# Altium schematic symbol library POWER_LIB.SchLib: 10 symbols
Pins are listed as number, name and electrical type; pins without a type are passive.

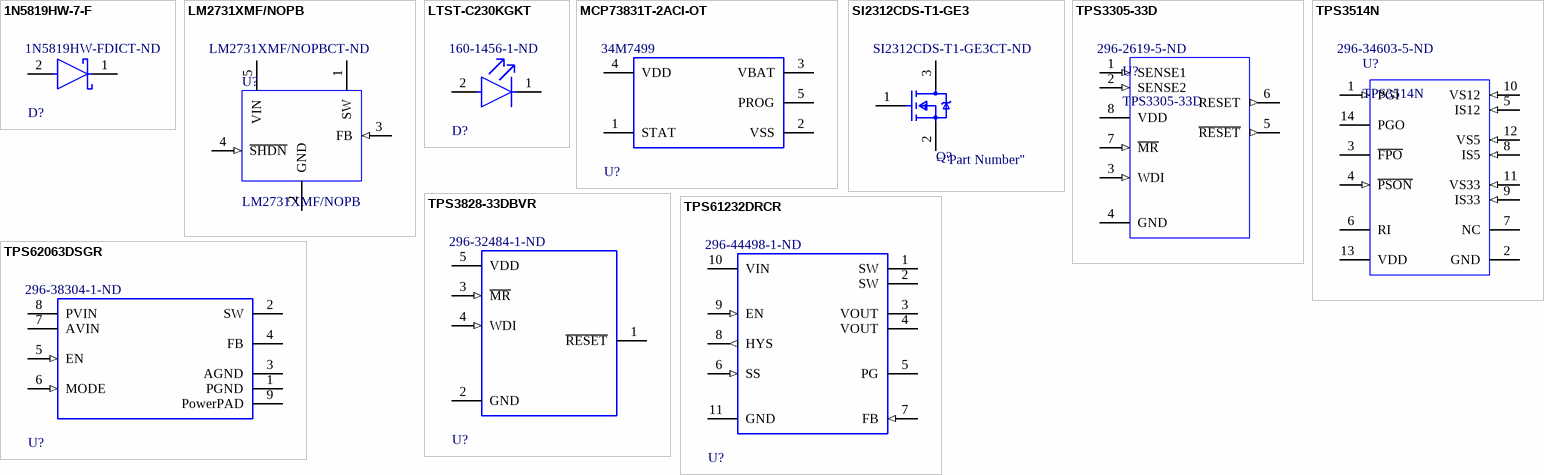
[diagram p0: symbols 1N5819HW-7-F to TPS62063DSGR]

## 1N5819HW-7-F
designator D?  Supplier Part Number 1: 1N5819HW-FDICT-ND  (hidden comment: *)
DIODES INC. - 1N5819HW-7-F - DIODE, SCKY RECTI, 1A, 40V, SOD123; Forward Voltage: 450mV; Max Reverse Current: 50uA; Element Configuration: Single; Max Forward Surge Current (Ifsm): 25A; Max Power Dissipation: 450mW; Polarity: Standard; Capacitance: 110pF; Supplier 1: Digi-Key; Manufacturer: Diodes; Manufacturer Part Number: 1N5819HW-7-F; RoHS: Yes; Category: Schottky Diodes; Stock 1: 453240; Pricing 1: 1=0.43000, 10=0.29800, 100=0.15020, 500=0.12256, 1000=0.09094 (USD); Case/Package: SOD-123-2; Number of Pins: 2; Weight: 0.000353oz; Contact Plating: Tin,Matte; Min Operating Temperature: -65°C; Max Operating Temperature: 125°C; Forward Current: 1A; Max Repetitive Reverse Voltage (Vrrm): 40V; Packaging: Tape and Reel; Peak Non-Repetitive Surge Current: 25A; Package Quantity: 3000; Average Rectified Current: 1A; Termination: SMD/SMT; Voltage Rating (DC): 40V; Current Rating: 1A; Output Current: 1A; Max Reverse Voltage (DC): 40V; Series: -; Length: 2.85mm; Width: 1.7mm; Height: 1.25mm; Radiation Hardening: No; RoHS Compliant: Yes; REACH SVHC: No SVHC; Lead Free: Lead Free; ComponentLink1URL: https://datasheet.ciiva.com/16303/ds30217-16303296.pdf?src-supplier=Future+Electronics; ComponentLink1Description: https://datasheet.ciiva.com/16303/ds30217-16303296.pdf?src-supplier=Future+Electronics; ComponentLink2URL: https://datasheet.ciiva.com/27092/1538419-27092484.pdf?src-supplier=Jameco; ComponentLink2Description: https://datasheet.ciiva.com/27092/1538419-27092484.pdf?src-supplier=Jameco; ComponentLink3URL: https://datasheet.ciiva.com/912/ds30217-912801.pdf?src-supplier=Digi-Key; ComponentLink3Description: https://datasheet.ciiva.com/912/ds30217-912801.pdf?src-supplier=Digi-Key; ComponentLink4URL: https://datasheet.ciiva.com/1177/ds30217-1177089.pdf?src-supplier=Element14; ComponentLink4Description: https://datasheet.ciiva.com/1177/ds30217-1177089.pdf?src-supplier=Element14; ComponentLink5URL: https://datasheet.ciiva.com/912/ds30217-912802.pdf?src-supplier=Digi-Key; ComponentLink5Description: https://datasheet.ciiva.com/912/ds30217-912802.pdf?src-supplier=Digi-Key; ComponentLink6URL: https://datasheet.ciiva.com/912/ds30217-912803.pdf?src-supplier=Digi-Key; ComponentLink6Description: https://datasheet.ciiva.com/912/ds30217-912803.pdf?src-supplier=Digi-Key; ComponentLink7URL: https://datasheet.ciiva.com/8303/ds30217-8303132.pdf?src-supplier=Avnet; ComponentLink7Description: https://datasheet.ciiva.com/8303/ds30217-8303132.pdf?src-supplier=Avnet; ComponentLink8URL: https://datasheet.ciiva.com/25919/ds30217-25919644.pdf?src-supplier=Avnet+Europe; ComponentLink8Description: https://datasheet.ciiva.com/25919/ds30217-25919644.pdf?src-supplier=Avnet+Europe
footprint Diodes_SOD123_IPC_B
pins: 1 C, 2 A

## LM2731XMF/NOPB
designator U?  Supplier Part Number 1: LM2731XMF/NOPBCT-ND
TEXAS INSTRUMENTS - LM2731XMF/NOPB - BOOST CONVERTER, 5-SOT-23; Manufacturer: National Semiconductor; PackageTopMarking: S51A*XTT; PowerWise: N; CompType: Switcher; Output Voltage: 22V; Number of Outputs: 1; Efficiency: 85%; Min Input Voltage: 2.7V; Max Input Voltage: 14V; Frequency: 1.6MHz; Output Current: 2mA; Max Output Current: 1.5A; Min Output Voltage: 1.23V; Output Type: Adjustable; Nominal Supply Current: 500uA; PinCount: 5; DatasheetVersion: Jul-2007; PackageVersion: revD, Aug-2008; PackageDescription: Molded SOT-23, .115 x .063 x .040 in Body, 5 Lead, .0375 in Pitch; RoHS: Y; PackageReference: MF05A; PartNumber: LM2731XMF/NOPB; Supplier 1: Digi-Key; Manufacturer Part Number: LM2731XMF/NOPB; Category: Voltage Regulators - Switching; Stock 1: 17273; Pricing 1: 1=2.12000, 10=1.90500, 25=1.79680, 100=1.43740, 250=1.25768, 500=1.22176 (USD); Mount: Surface Mount; Case/Package: SOT-23; Number of Pins: 5; Contact Plating: Tin,Matte; Min Operating Temperature: -40°C; Max Operating Temperature: 125°C; Packaging: Tape and Reel; Package Quantity: 1000; Min Supply Voltage: 2.7V; Switching Frequency: 1.6MHz; Max Supply Voltage: 14V; Max Output Voltage: 22V; Termination: SMD/SMT; Quiescent Current: 2mA; Topology: Boost; Length: 2.92mm; Width: 1.6mm; Height: 1.02mm; Radiation Hardening: No; REACH SVHC: No SVHC; Lead Free: Lead Free; RoHS Compliant: Yes; ComponentLink1URL: https://datasheet.ciiva.com/22669/1772278-22669474.pdf?src-supplier=Element14; ComponentLink1Description: https://datasheet.ciiva.com/22669/1772278-22669474.pdf?src-supplier=Element14; ComponentLink2URL: https://datasheet.ciiva.com/15112/getdatasheetpartid-123619-15112979.pdf?src-supplier=Verical; ComponentLink2Description: https://datasheet.ciiva.com/15112/getdatasheetpartid-123619-15112979.pdf?src-supplier=Verical; ComponentLink3URL: https://datasheet.ciiva.com/26098/lm2731-26098842.pdf?src-supplier=Avnet+Europe; ComponentLink3Description: https://datasheet.ciiva.com/26098/lm2731-26098842.pdf?src-supplier=Avnet+Europe; ComponentLink4URL: https://datasheet.ciiva.com/6598/lm2731-6598043.pdf?src-supplier=Digi-Key; ComponentLink4Description: https://datasheet.ciiva.com/6598/lm2731-6598043.pdf?src-supplier=Digi-Key; ComponentLink5URL: https://datasheet.ciiva.com/6598/lm2731-6598042.pdf?src-supplier=Digi-Key; ComponentLink5Description: https://datasheet.ciiva.com/6598/lm2731-6598042.pdf?src-supplier=Digi-Key; ComponentLink6URL: https://datasheet.ciiva.com/46382/1882673-46382607.pdf?src-supplier=Element14; ComponentLink6Description: https://datasheet.ciiva.com/46382/1882673-46382607.pdf?src-supplier=Element14; ComponentLink7URL: https://datasheet.ciiva.com/14304/lm2731-14304517.pdf?src-supplier=Avnet; ComponentLink7Description: https://datasheet.ciiva.com/14304/lm2731-14304517.pdf?src-supplier=Avnet; ComponentLink8URL: https://datasheet.ciiva.com/6598/lm2731-6598044.pdf?src-supplier=Digi-Key; ComponentLink8Description: https://datasheet.ciiva.com/6598/lm2731-6598044.pdf?src-supplier=Digi-Key; ComponentLink9URL: https://datasheet.ciiva.com/46382/1882673-46382493.pdf?src-supplier=Element14; ComponentLink9Description: https://datasheet.ciiva.com/46382/1882673-46382493.pdf?src-supplier=Element14
footprint MF05A_M
footprint MF05A_N
footprint MF05A_L
footprint MF05A_N (SOT23, 5-Leads, Body 2.9x1.6mm, Pitch 0.95mm, Lead Span 2.8mm, IPC Medium Density)
pins: 1 SW (power), 2 GND (power), 3 FB (in), 4 ~{SHDN} (in), 5 VIN (power)

## LTST-C230KGKT
designator D?  Supplier Part Number 1: 160-1456-1-ND  (hidden comment: *)
LED GREEN CLEAR CHIP SMD; Manufacturer: Vishay Lite-On; Manufacturer Part Number: LTST-C230KGKT; Lens Color: Colorless; Forward Voltage: 2V; Luminous Intensity: 35mcd; Viewing Angle: 130°; Dominant Wavelength: 571nm; Test Current: 20mA; Wavelength: 574nm; Forward Current: 30mA; Power Rating: 75mW; Lens Style: Diffused,Colorless,Clear,Rectangular; Number of Elements: 1; Reverse Voltage: 5V; Supplier 1: Digi-Key; RoHS: Yes; Category: LEDs; Stock 1: 244034; Pricing 1: 1=0.31000, 10=0.16700, 100=0.07740, 500=0.07140, 1000=0.05593 (USD); Mount: Surface Mount; Case/Package: 1206; Number of Pins: 2; Color: Green; Case Code (Metric): 3216; Case Code (Imperial): 1206; Min Operating Temperature: -55°C; Max Operating Temperature: 85°C; Packaging: Tape and Reel; Package Quantity: 1; Lens Transparency: Clear; Illumination Color: Green; Power Dissipation: 75mW; Number of LEDs: 1; Length: 3.2mm; Width: 1.6mm; Height: 1.1mm; Depth: 1.6mm; Radiation Hardening: No; Lead Free: Lead Free; RoHS Compliant: Yes; ComponentLink1URL: https://datasheet.ciiva.com/15118/getdatasheetpartid-214545-15118102.pdf?src-supplier=Verical; ComponentLink1Description: https://datasheet.ciiva.com/15118/getdatasheetpartid-214545-15118102.pdf?src-supplier=Verical; ComponentLink2URL: https://datasheet.ciiva.com/12400/lite-on-ltst-c230kgkt-190174-12400698.pdf?src-supplier=Mouser; ComponentLink2Description: https://datasheet.ciiva.com/12400/lite-on-ltst-c230kgkt-190174-12400698.pdf?src-supplier=Mouser; ComponentLink3URL: https://datasheet.ciiva.com/11773/0900766b80dc057a-11773900.pdf?src-supplier=RSComponents; ComponentLink3Description: https://datasheet.ciiva.com/11773/0900766b80dc057a-11773900.pdf?src-supplier=RSComponents; ComponentLink4URL: https://datasheet.ciiva.com/2110/s-110-ltst-c230kgkt-2110033.pdf?src-supplier=Digi-Key; ComponentLink4Description: https://datasheet.ciiva.com/2110/s-110-ltst-c230kgkt-2110033.pdf?src-supplier=Digi-Key; ComponentLink5URL: https://datasheet.ciiva.com/2110/s-110-ltst-c230kgkt-2110034.pdf?src-supplier=Digi-Key; ComponentLink5Description: https://datasheet.ciiva.com/2110/s-110-ltst-c230kgkt-2110034.pdf?src-supplier=Digi-Key; ComponentLink6URL: https://datasheet.ciiva.com/2110/s-110-ltst-c230kgkt-2110035.pdf?src-supplier=Digi-Key; ComponentLink6Description: https://datasheet.ciiva.com/2110/s-110-ltst-c230kgkt-2110035.pdf?src-supplier=Digi-Key
footprint Lite-On_LTST-C230KGKT_0
pins: 1 C, 2 A

## MCP73831T-2ACI-OT
designator U?  Supplier Part Number 1: 34M7499  (hidden comment: *)
MCP73831 Series Single-Cell Li-Ion/Li-Polymer Battery Charge Controller SOT-23-5; Manufacturer: Microchip; Manufacturer Part Number: MCP73831T-2ACI/OT; Number of Cells: 1; Output Voltage: 4.2V; Max Supply Voltage: 6V; Min Supply Voltage: 3.75V; Output Current: 500mA; Max Output Voltage: 4.5V; Min Output Voltage: 4.168V; Max Power Dissipation: 1.54W; Drain to Source Resistance: 350mR; Voltage Rating: 4.534V; Supplier 1: Newark; RoHS: Yes; Category: Battery Management; Stock 1: 16259; Pricing 1: 1=0.56000, 25=0.47000, 50=0.44500 (USD); Mount: Surface Mount; Case/Package: SOT-23; Number of Pins: 5; Weight: 0.00709oz; Contact Plating: Tin,Matte; Min Operating Temperature: -40°C; Max Operating Temperature: 85°C; Packaging: Tape and Reel; Max Charge Current: 500mA; Max Input Voltage: 6V; Number of Outputs: 1; Number of Channels: 1; Termination: SMD/SMT; Series: MCP73831/2; Length: 0.122inch; Width: 0.071inch; Height: 0.051inch; Radiation Hardening: No; REACH SVHC: No SVHC; Lead Free: Lead Free; RoHS Compliant: Yes; ComponentLink1URL: https://datasheet.ciiva.com/22828/0900766b80d2b53a-22828876.pdf?src-supplier=RSComponents; ComponentLink1Description: https://datasheet.ciiva.com/22828/0900766b80d2b53a-22828876.pdf?src-supplier=RSComponents; ComponentLink2URL: https://datasheet.ciiva.com/26344/651521-da-01-en-contr-mcp73831t-2aci-ot-sot-23-5-mcp-26344458.pdf?src-supplier=Conrad; ComponentLink2Description: https://datasheet.ciiva.com/26344/651521-da-01-en-contr-mcp73831t-2aci-ot-sot-23-5-mcp-26344458.pdf?src-supplier=Conrad; ComponentLink3URL: https://datasheet.ciiva.com/1931/21984e-1931955.pdf?src-supplier=Digi-Key; ComponentLink3Description: https://datasheet.ciiva.com/1931/21984e-1931955.pdf?src-supplier=Digi-Key; ComponentLink4URL: https://datasheet.ciiva.com/1137/630369-1137803.pdf?src-supplier=Element14; ComponentLink4Description: https://datasheet.ciiva.com/1137/630369-1137803.pdf?src-supplier=Element14; ComponentLink5URL: https://datasheet.ciiva.com/16286/filehandler-aspxddocname-en025112-16286957.pdf?src-supplier=Future+Electronics; ComponentLink5Description: https://datasheet.ciiva.com/16286/filehandler-aspxddocname-en025112-16286957.pdf?src-supplier=Future+Electronics; ComponentLink6URL: https://datasheet.ciiva.com/1931/21984e-1931953.pdf?src-supplier=Digi-Key; ComponentLink6Description: https://datasheet.ciiva.com/1931/21984e-1931953.pdf?src-supplier=Digi-Key; ComponentLink7URL: https://datasheet.ciiva.com/1931/21984e-1931954.pdf?src-supplier=Digi-Key; ComponentLink7Description: https://datasheet.ciiva.com/1931/21984e-1931954.pdf?src-supplier=Digi-Key; ComponentLink8URL: https://datasheet.ciiva.com/28626/630369-28626439.pdf?src-supplier=Element14; ComponentLink8Description: https://datasheet.ciiva.com/28626/630369-28626439.pdf?src-supplier=Element14; ComponentLink9URL: https://datasheet.ciiva.com/3213/21984e-3213404.pdf?src-supplier=Avnet; ComponentLink9Description: https://datasheet.ciiva.com/3213/21984e-3213404.pdf?src-supplier=Avnet; ComponentLink10URL: https://datasheet.ciiva.com/46385/630369-46385324.pdf?src-supplier=Element14; ComponentLink10Description: https://datasheet.ciiva.com/46385/630369-46385324.pdf?src-supplier=Element14; ComponentLink11URL: https://datasheet.ciiva.com/1144/630369-1144461.pdf?src-supplier=Newark; ComponentLink11Description: https://datasheet.ciiva.com/1144/630369-1144461.pdf?src-supplier=Newark
footprint Microchip_C04-091-OT_IPC_B
pins: 1 STAT, 2 VSS (power), 3 VBAT (power), 4 VDD (power), 5 PROG

## SI2312CDS-T1-GE3
designator Q?  Supplier Part Number 1: SI2312CDS-T1-GE3CT-ND  (hidden comment: *)
MOSFET N-CH 20V 6A SOT-23; Manufacturer: Vishay Siliconix; Manufacturer Part Number: SI2312CDS-T1-GE3; Rise Time: 17ns; Rds On Max: 31.8mR; Input Capacitance: 865pF; Drain to Source Resistance: 26.5mR; Max Power Dissipation: 2.1W; Number of Elements: 1; Power Dissipation: 1.25W; Fall Time: 8ns; Turn-Off Delay Time: 31ns; Threshold Voltage: 450mV; Element Configuration: Single; Gate to Source Voltage (Vgs): 8V; Polarity: N-CHANNEL; Supplier 1: Digi-Key; RoHS: Yes; Category: MOSFETs; Stock 1: 57000; Pricing 1: 1=0.46000, 10=0.39100, 25=0.36560, 100=0.27170, 500=0.21214, 1000=0.17242 (USD); Mount: Surface Mount; Case/Package: SOT-23-3; Number of Pins: 3; Weight: 0.050717oz; Min Operating Temperature: -55°C; Max Operating Temperature: 150°C; Packaging: Tape and Reel; Package Quantity: 3000; Continuous Drain Current (ID): 6A; Drain to Source Voltage (Vdss): 20V; Turn-On Delay Time: 8ns; Number of Channels: 1; On-State Resistance: 31.8MR; Series: TrenchFET®; Drain-source On Resistance-Max: 31.8MR; Radiation Hardening: No; REACH SVHC: No SVHC; Lead Free: Lead Free; RoHS Compliant: Yes; ComponentLink1URL: https://datasheet.ciiva.com/16217/si2312cd-16217600.pdf?src-supplier=Future+Electronics; ComponentLink1Description: https://datasheet.ciiva.com/16217/si2312cd-16217600.pdf?src-supplier=Future+Electronics; ComponentLink2URL: https://datasheet.ciiva.com/4444/si2312cd-244454-4444440.pdf?src-supplier=Mouser; ComponentLink2Description: https://datasheet.ciiva.com/4444/si2312cd-244454-4444440.pdf?src-supplier=Mouser; ComponentLink3URL: https://datasheet.ciiva.com/11161/si2312cd-11161047.pdf?src-supplier=Avnet; ComponentLink3Description: https://datasheet.ciiva.com/11161/si2312cd-11161047.pdf?src-supplier=Avnet; ComponentLink4URL: https://datasheet.ciiva.com/26137/si2312cd-26137883.pdf?src-supplier=Avnet+Europe; ComponentLink4Description: https://datasheet.ciiva.com/26137/si2312cd-26137883.pdf?src-supplier=Avnet+Europe; ComponentLink5URL: https://datasheet.ciiva.com/28678/1910583-28678395.pdf?src-supplier=Element14; ComponentLink5Description: https://datasheet.ciiva.com/28678/1910583-28678395.pdf?src-supplier=Element14; ComponentLink6URL: https://datasheet.ciiva.com/931/si2312cd-931966.pdf?src-supplier=Digi-Key; ComponentLink6Description: https://datasheet.ciiva.com/931/si2312cd-931966.pdf?src-supplier=Digi-Key; ComponentLink7URL: https://datasheet.ciiva.com/7788/si2312cd-7788757.pdf?src-supplier=Element14; ComponentLink7Description: https://datasheet.ciiva.com/7788/si2312cd-7788757.pdf?src-supplier=Element14; ComponentLink8URL: https://datasheet.ciiva.com/931/si2312cd-931965.pdf?src-supplier=Digi-Key; ComponentLink8Description: https://datasheet.ciiva.com/931/si2312cd-931965.pdf?src-supplier=Digi-Key; ComponentLink9URL: https://datasheet.ciiva.com/931/si2312cd-931967.pdf?src-supplier=Digi-Key; ComponentLink9Description: https://datasheet.ciiva.com/931/si2312cd-931967.pdf?src-supplier=Digi-Key
footprint Vishay_S-03946_0
pins: 1 G, 2 S, 3 D

## TPS3305-33D
designator U?  Supplier Part Number 1: 296-2619-5-ND
IC DUAL 4.55/2.93 V MON 8-SOIC; Manufacturer: Texas Instruments; # of Supplies Monitored: 2; VCC(Min)(V): 2.7; Threshold Voltage 2 (typ)(Typ)(V): 2.93; SubFamily: Supervisor and Reset IC; Output Driver Type / Reset Output: Active-low, Push-pull; VCC(Max)(V): 6; Watchdog Timer WDI(sec): 1.6; Iq(Typ)(uA): 15; Time Delay(ms): 200; Rating: Catalog; Threshold Voltage 1 (typ)(Typ)(V): 4.55; Max Supply Voltage: 6V; Min Supply Voltage: 2.7V; Nominal Supply Current: 40uA; Max Power Dissipation: 725mW; Reset: Active High/Active Low; Reset Timeout: 140ms; Threshold Voltage: 4.55V; Operating Supply Current: 15uA; Watchdog Timer: Yes; Output Type: PUSH-PULL; Output: TOTEM-POLE; Reset Threshold Accuracy(%): 2.7; PartNumber: TPS3305-33D; ComponentLink1Description: Datasheet; DatasheetVersion: SLVS198C; ComponentLink1URL: http://www.ti.com/general/docs/lit/getliterature.tsp?genericPartNumber=TPS3305-33&fileType=pdf; Code_JEDEC: MS-012AA; PackageVersion: revM, Jun-2011; Mounting Technology: Surface Mount; PackageReference: D0008A; PackageDescription: 8-Pin Plastic Small Outline Integrated Circuit, 4.9 x 3.9 mm, Pitch 1.27 mm Pitch; Supplier 1: Digi-Key; Manufacturer Part Number: TPS3305-33D; RoHS: Yes; Category: Voltage Supervisors; Stock 1: 145; Pricing 1: 1=3.09000, 10=2.77500, 25=2.62360, 100=2.15710, 250=1.93556, 500=1.86560, 1000=1.55078, 2500=1.54000 (USD); Case/Package: D; Number of Pins: 8; Min Operating Temperature: -40°C; Max Operating Temperature: 85°C; Package Quantity: 75; Packaging: Rail/Tube; Number of Voltages Monitored: 2; Undervoltage Threshold: 4.55V; Max Supply Current: 40uA; Number of Elements: 2; Power Dissipation: 725mW; Quiescent Current: 15uA; Series: TPS3305-33; Supply Current: 40uA; Length: 4.9mm; Width: 3.91mm; Height: 1.58mm; Radiation Hardening: No; Lead Free: Lead Free; RoHS Compliant: Yes; REACH SVHC: No SVHC; ComponentLink2URL: https://datasheet.ciiva.com/27052/1522548-27052313.pdf?src-supplier=Jameco; ComponentLink2Description: https://datasheet.ciiva.com/27052/1522548-27052313.pdf?src-supplier=Jameco; ComponentLink3URL: https://datasheet.ciiva.com/15105/getdatasheetpartid-203809-15105979.pdf?src-supplier=Verical; ComponentLink3Description: https://datasheet.ciiva.com/15105/getdatasheetpartid-203809-15105979.pdf?src-supplier=Verical; ComponentLink4URL: https://datasheet.ciiva.com/1971/tps3305-18-1971392.pdf?src-supplier=Digi-Key; ComponentLink4Description: https://datasheet.ciiva.com/1971/tps3305-18-1971392.pdf?src-supplier=Digi-Key; ComponentLink5URL: https://datasheet.ciiva.com/26071/tps3305-33-26071064.pdf?src-supplier=Avnet+Europe; ComponentLink5Description: https://datasheet.ciiva.com/26071/tps3305-33-26071064.pdf?src-supplier=Avnet+Europe; ComponentLink6URL: https://datasheet.ciiva.com/7990/1864396-7990412.pdf?src-supplier=Element14; ComponentLink6Description: https://datasheet.ciiva.com/7990/1864396-7990412.pdf?src-supplier=Element14; ComponentLink7URL: https://datasheet.ciiva.com/41462/001014757-da-01-en-ic-dual-4-55-2-93-tps3305-33d-soic-8-tid-41462603.pdf?src-supplier=Conrad; ComponentLink7Description: https://datasheet.ciiva.com/41462/001014757-da-01-en-ic-dual-4-55-2-93-tps3305-33d-soic-8-tid-41462603.pdf?src-supplier=Conrad
footprint D0008A_N
footprint D0008A_M
footprint D0008A_L
footprint D0008A_M (SOIC, 8-Leads, Body 5x4mm, Pitch 1.27mm, IPC Low Density)
pins: 1 SENSE1 (in) "Sense voltage input 1", 2 SENSE2 (in) "Sense voltage input 2", 3 WDI (in) "Watchdog timer input", 4 GND (power) "Ground", 5 ~{RESET} (out) "Active-low reset output", 6 RESET (out) "Active-high reset output", 7 ~{MR} (in) "Manual reset", 8 VDD (power) "Supply voltage"

## TPS3514N
designator U?  Supplier Part Number 1: 296-34603-5-ND
Volt Supervisor Monitor 3.3V/5V/12V 14-Pin PDIP Tube; Manufacturer: Texas Instruments; # of Supplies Monitored: 3; VCC(Min)(V): 4.5; Reset Threshold Accuracy(%): 2.3; Threshold Voltage 2 (typ)(Typ)(V): 3.5; SubFamily: Supervisor and Reset IC; Time Delay(ms): 300; Output Driver Type / Reset Output: Active-low, Open-drain; Threshold Voltage 3 (typ)(Typ)(V): 9; VCC(Max)(V): 15; Iq(Typ)(uA): 1000; Rating: Catalog; Threshold Voltage 1 (typ)(Typ)(V): 2.2; Min Supply Voltage: 4.5V; Max Supply Voltage: 15V; Max Power Dissipation: 1.512W; Reset: Active Low; Reset Timeout: 200ms; Threshold Voltage: 12V; Overvoltage Threshold: 13.8V; Undervoltage Threshold: 9V; Operating Supply Current: 1mA; Watchdog Timer: No; Max Output Current: 20mA; PartNumber: TPS3514N; ComponentLink1Description: Datasheet; DatasheetVersion: SLVS422C; ComponentLink1URL: http://www.ti.com/general/docs/lit/getliterature.tsp?genericPartNumber=TPS3514&fileType=pdf; PackageReference: N0014A; PackageVersion: revE, Dec-2002; Mounting Technology: Through Hole; PackageDescription: 14-Pin Plastic Dual-In-Line Package, Row Spacing 7.62 mm, Pitch 2.54 mm; Code_JEDEC: MS-001; Supplier 1: Digi-Key; Manufacturer Part Number: TPS3514N; RoHS: Yes; Category: Voltage Supervisors; Stock 1: 425; Pricing 1: 1=1.79000, 10=1.60700, 25=1.51600, 100=1.21260, 250=1.06104, 500=1.03074, 1000=0.81853, 2500=0.80080 (USD); Case/Package: N; Number of Pins: 14; Min Operating Temperature: -40°C; Max Operating Temperature: 85°C; Packaging: Rail/Tube; Package Quantity: 25; Number of Voltages Monitored: 3; Max Supply Current: 1mA; Power Dissipation: 1.512W; Quiescent Current: 1mA; Series: TPS3514; Nominal Supply Current: 1mA; Termination: Through Hole; Supply Current: 1mA; Radiation Hardening: No; Lead Free: Lead Free; RoHS Compliant: Yes; REACH SVHC: No SVHC; ComponentLink2URL: https://datasheet.ciiva.com/15105/getdatasheetpartid-537328-15105565.pdf?src-supplier=Verical; ComponentLink2Description: https://datasheet.ciiva.com/15105/getdatasheetpartid-537328-15105565.pdf?src-supplier=Verical; ComponentLink3URL: https://datasheet.ciiva.com/6600/tps3514-6600508.pdf?src-supplier=Digi-Key; ComponentLink3Description: https://datasheet.ciiva.com/6600/tps3514-6600508.pdf?src-supplier=Digi-Key
footprint N0014A
pins: 1 PGI (in) "Power-Good Input", 2 GND (power) "Ground", 3 ~{FPO} (oc) "Inverted Fault Ptotection output. Open-drain output stage.", 4 ~{PSON} (in) "On/Off Control Input", 5 IS12 (in) "12V Over-Current Protection Input", 6 RI "OCP Reference Source", 7 NC "No Internal Connection", 8 IS5 (in) "5V Over-Current Protection Input", 9 IS33 (in) "3.3V Over-Current Protection Input", 10 VS12 (in) "12V Over-Voltage/Under-Voltage Protection Input", 11 VS33 (in) "3.3V Over-Voltage/Under-Voltage Protection Input", 12 VS5 (in) "5V Over-Voltage/Under-Voltage Protection Input", 13 VDD (power) "Supply Voltage", 14 PGO (oc) "Power-Good Output. Open-drain output stage."

## TPS3828-33DBVR
designator U?  Supplier Part Number 1: 296-32484-1-ND  (hidden comment: *)
Processor Supervisor 2.93V 1 Active Low/Open Drain 5-Pin SOT-23 T/R; Manufacturer: Texas Instruments; Manufacturer Part Number: TPS3828-33DBVR; Supplier 1: Digi-Key; RoHS: Yes; Category: Voltage Supervisors; Stock 1: 2127; Pricing 1: 1=1.22000, 10=1.09400, 25=1.03880, 100=0.79760, 250=0.70488, 500=0.66780, 1000=0.51940 (USD); RoHS Compliant: Yes
footprint Texas_Instruments_DBV0005A_IPC_B
pins: 1 ~{RESET} (oc), 2 GND (power), 3 ~{MR} (in), 4 WDI (in), 5 VDD (power)

## TPS61232DRCR
designator U?  Supplier Part Number 1: 296-44498-1-ND  (hidden comment: *)
IC REG BOOST 5V 4A 10VSON; Manufacturer: Texas Instruments; Manufacturer Part Number: TPS61232DRCR; Quiescent Current: 35uA; Number of Outputs: 1; Switching Frequency: 2MHz; Min Input Voltage: 2.3V; Efficiency: 96%; Max Output Current: 2.1A; Max Input Voltage: 5.5V; Output Type: Fixed; Supplier 1: Digi-Key; RoHS: Yes; Category: Power Supply Modules; Stock 1: 6658; Pricing 1: 1=2.61000, 10=2.34800, 25=2.21520, 100=1.77230, 250=1.55080, 500=1.50648, 1000=1.19632 (USD); Mount: Surface Mount; Number of Pins: 10; Contact Plating: Gold; Min Operating Temperature: -40°C; Max Operating Temperature: 85°C; Output Voltage: 5V; Operating Supply Voltage: 5.5V; Topology: Boost; Lead Free: Lead Free; RoHS Compliant: Yes; ComponentLink1URL: http://www.ti.com/lit/ds/symlink/tps61232.pdf?src-supplier=Digi-Key; ComponentLink1Description: http://www.ti.com/lit/ds/symlink/tps61232.pdf?src-supplier=Digi-Key; ComponentLink2URL: http://www.ti.com/general/docs/suppproductinfo.tsp?distId=10&amp;gotoUrl=http%3A%2F%2Fwww.ti.com%2Flit%2Fgpn%2Ftps61232&src-supplier=Digi-Key; ComponentLink2Description: http://www.ti.com/general/docs/suppproductinfo.tsp?distId=10&amp;gotoUrl=http%3A%2F%2Fwww.ti.com%2Flit%2Fgpn%2Ftps61232&src-supplier=Digi-Key
footprint Texas_Instruments_DRC0010G_IPC_B
pins: 1 SW (power), 2 SW (power), 3 VOUT, 4 VOUT, 5 PG (oc), 6 SS (in), 7 FB (in), 8 HYS (out), 9 EN (in), 10 VIN (power), 11 GND (power)

## TPS62063DSGR
designator U?  Supplier Part Number 1: 296-38304-1-ND  (hidden comment: *)
Conv DC-DC Single Step Down 2.7V to 6V 8-Pin WSON EP T/R; Manufacturer: Texas Instruments; Manufacturer Part Number: TPS62063DSGR; Output Voltage: 3.3V; Output Current: 1.6A; Number of Outputs: 1; Switching Frequency: 3MHz; Efficiency: 97%; Synchronous Rectifier: Yes; Quiescent Current: 18uA; Output Type: Fixed,Adjustable; Output Configuration: Positive; Supplier 1: Digi-Key; RoHS: Yes; Category: Voltage Regulators - Switching; Stock 1: 6273; Pricing 1: 1=1.73000, 10=1.55600, 25=1.46800, 100=1.17450, 250=1.02768, 500=0.99830, 1000=0.79277 (USD); Number of Pins: 8; Contact Plating: Gold; Min Operating Temperature: -40°C; Max Operating Temperature: 85°C; Packaging: Tape and Reel; Package Quantity: 3000; Max Output Current: 1.6A; Max Input Voltage: 6V; Min Input Voltage: 2.7V; Min Output Voltage: 3.3V; Max Output Voltage: 3.3V; Series: -; Lead Free: Lead Free; RoHS Compliant: Yes; ComponentLink1URL: https://datasheet.ciiva.com/4879/slvsa95a-121279-4879153.pdf?src-supplier=Mouser; ComponentLink1Description: https://datasheet.ciiva.com/4879/slvsa95a-121279-4879153.pdf?src-supplier=Mouser; ComponentLink2URL: https://datasheet.ciiva.com/2034/tps62061-2034636.pdf?src-supplier=Digi-Key; ComponentLink2Description: https://datasheet.ciiva.com/2034/tps62061-2034636.pdf?src-supplier=Digi-Key; ComponentLink3URL: https://datasheet.ciiva.com/14377/tps62060-14377981.pdf?src-supplier=Avnet; ComponentLink3Description: https://datasheet.ciiva.com/14377/tps62060-14377981.pdf?src-supplier=Avnet
footprint Texas_Instruments_DSG0008A_IPC_B
pins: 1 PGND (power), 2 SW, 3 AGND (power), 4 FB, 5 EN (in), 6 MODE (in), 7 AVIN (power), 8 PVIN (power), 9 PowerPAD (power)